# Altium integrated library ARDUINO_UNO_REV3_DEVELOPMENT_BOARD.IntLib: 1 symbol
Pins are listed as number, name and electrical type; pins without a type are passive.

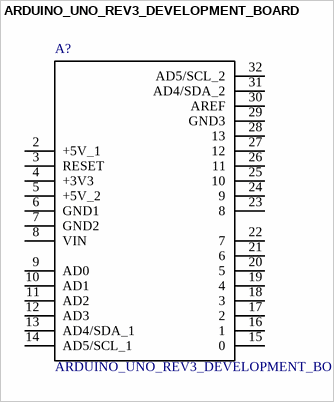
[diagram p0: symbol ARDUINO_UNO_REV3_DEVELOPMENT_BOARD]

## ARDUINO_UNO_REV3_DEVELOPMENT_BOARD
designator A?
Plated Through Hole Protoboard Arduino Mega Platform Evaluation Expansion Board; MP: ARDUINO UNO REV3 DEVELOPMENT BOARD; Availability: Unavailable; SnapEDA_Link: https://www.snapeda.com/parts/ARDUINO%20UNO%20REV3%20DEVELOPMENT%20BOARD/Arduino/view-part/424299/?ref=snap; Price: None; Package: None; MF: Arduino; Value: *
footprint *ARDUINO_UNO_REV3_DEVELOPMENT_BOARD
pins: 2 +5V_1, 3 RESET, 4 +3V3, 5 +5V_2, 6 GND1, 7 GND2, 8 VIN, 9 AD0, 10 AD1, 11 AD2, 12 AD3, 13 AD4/SDA_1, 14 AD5/SCL_1, 15 0, 16 1, 17 2, 18 3, 19 4, 20 5, 21 6, 22 7, 23 8, 24 9, 25 10, 26 11, 27 12, 28 13, 29 GND3, 30 AREF, 31 AD4/SDA_2, 32 AD5/SCL_2